# Altium footprint library ppdInt_pcbLib.PcbLib: 1 footprints
Each footprint in its own frame and in the unit in brackets; x right, y up, seen from the top. Pads: shape width x height; smd on the part's side, far side on the other; paste and mask are expansions set on the pad; w line width, h text height; cw(c..) or ccw(c..) is an arc to the next point about the centre after c.
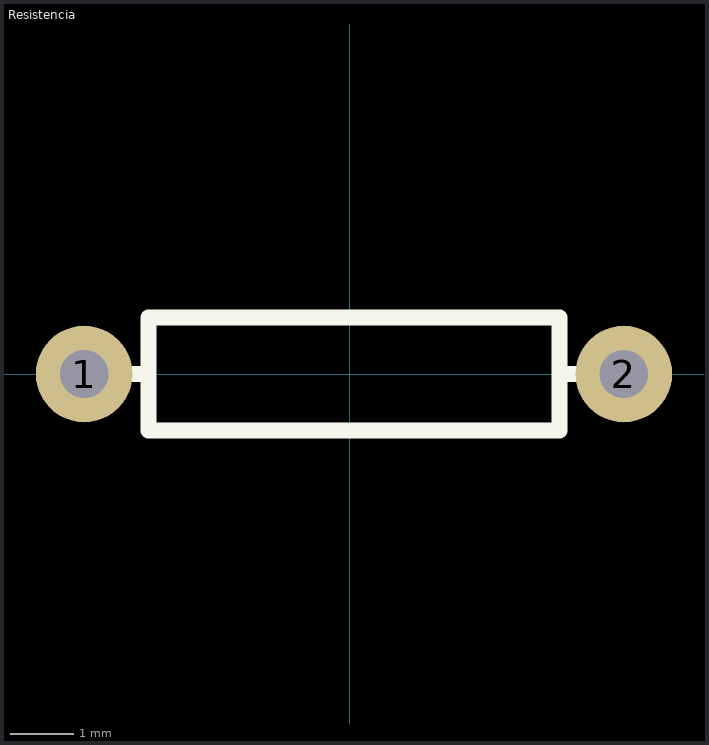
[diagram p0: the footprint, top view; thin cyan lines are the x and y axes]

## Resistencia [mil]
pads (2):
  round 60 hole 30: 1(-165,0) 2(170,0)
Top Overlay:
  lines w10: -165,0 -125,0 ; 130,0 170,0 ; -125,0 -125,35 130,35 130,-35 -125,-35 -125,0
3D body "resistor025W-1k0.STEP": height 98.41, standoff -108.27, extent -176.73,-48.6 181.54,49.82